# Altium integrated library BC547A.IntLib: 1 symbol
Pins are listed as number, name and electrical type; pins without a type are passive.

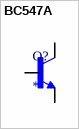
[diagram p0: symbol BC547A]

## BC547A
designator Q?
BJT, TO-92, 45V, 100mA, NPN, 0.5W, 150Â°C; MF: Diotec Semiconductor; MP: BC547A; SnapEDA_Link: https://www.snapeda.com/parts/BC547A/Diotec/view-part/?ref=snap; Package: TO-92 Diotec; Value: *; Check_prices: https://www.snapeda.com/parts/BC547A/Diotec/view-part/?ref=eda
footprint TRANS_BC547A
pins: 1 C, 2 B, 3 E